# EAGLE library part ACS712 (library eko-parts)
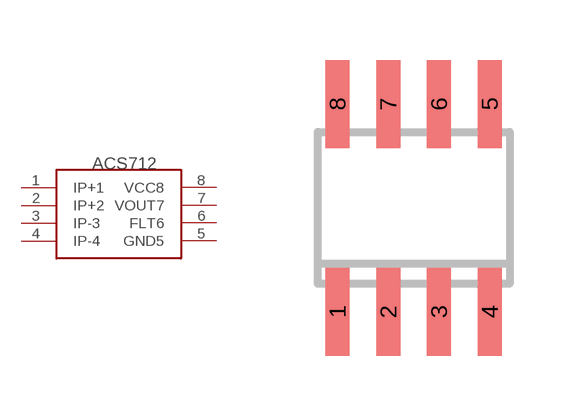
[diagram p8: symbol with the pads of SO8; footprint SO8]

Designator prefix -

## ACS712  [SO8]
1  IP+1
2  IP+2
3  IP-3
4  IP-4
5  GND5  pwr
6  FLT6  pas
7  VOUT7  out
8  VCC8  pwr

## Footprint SO8 (pad centres in mm)
smd 0.6 x 2.2: 1 -1.905,-2.6; 2 -0.635,-2.6; 3 0.635,-2.6; 4 1.905,-2.6; 5 1.905,2.6; 6 0.635,2.6; 7 -0.635,2.6; 8 -1.905,2.6